# EAGLE library part SMD-TRANSISTOR-ARRAY-2-NPN-50V-150MA-UMT1NTN(SC88-6) (library SKAARHOJ)
305050008
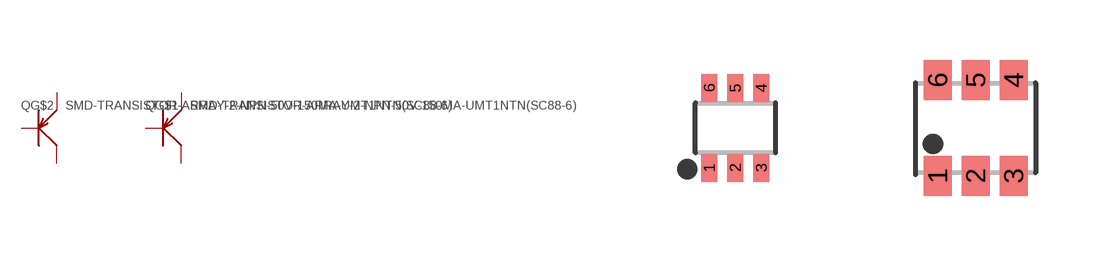
[diagram p95: symbol with the pads of SC-88; footprints SC-88, SOT-26]

Designator prefix Q; gates G$1=TRANSISTOR-PNP G$2=TRANSISTOR-PNP

## SMD-TRANSISTOR-ARRAY-2-NPN-50V-150MA-UMT1NTN(SC88-6) (MPN: UMT1NTN; VALUE: UMT1NTN)  [SC-88]
1  G$1:E  pas
2  G$1:B  pas
3  G$2:E  pas
4  G$2:B  pas
5  G$2:C  pas
6  G$1:C  pas

## SMD-TRANSISTOR-ARRAY-2-NPN-50V-150MA-UMT1NTN(SC88-6)SOT26  [SOT-26]
1  G$1:C  pas
2  G$1:B  pas
3  G$2:B  pas
4  G$2:C  pas
5  G$2:E  pas
6  G$1:E  pas

## Footprint SC-88 (pad centres in mm)
smd 0.4 x 0.7: 1 -0.65,-1; 2 0,-1; 3 0.65,-1; 4 0.65,1; 5 0,1; 6 -0.65,1

## Footprint SOT-26 (pad centres in mm)
smd 0.7 x 1: 1 -0.95,-1.2; 2 0,-1.2; 3 0.95,-1.2; 4 0.95,1.2; 5 0,1.2; 6 -0.95,1.2